# EAGLE library part 0896BM15A0001 (library Mine)
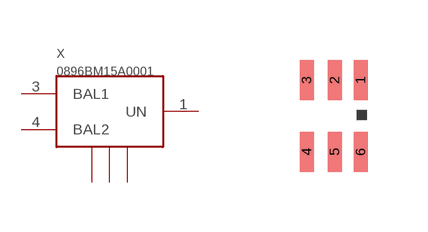
[diagram p64: symbol with the pads of 0896BM15A0001; footprint 0896BM15A0001]

Designator prefix X

## 0896BM15A0001  [0896BM15A0001]
1  UN  out
2  GND2  sup
3  BAL1  in
4  BAL2  in
5  GND  sup
6  GND1  sup

## Footprint 0896BM15A0001 (pad centres in mm)
smd 0.35 x 1: 1 0.65,0.9; 2 0,0.9; 3 -0.7,0.9; 4 -0.7,-0.9; 5 0,-0.9; 6 0.65,-0.9